# Altium schematic symbol library SSW-103-03-T-D.SchLib: 1 symbol
Pins are listed as number, name and electrical type; pins without a type are passive.

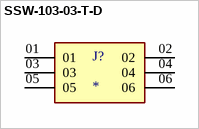
[diagram p0: symbol SSW-103-03-T-D]

## SSW-103-03-T-D
designator J?
SSW Series .100 Tiger Buyâ„¢ Socket Strip; MF: Samtec; MP: SSW-103-03-T-D; Price: None; Check_prices: https://www.snapeda.com/parts/SSW-103-03-T-D/Samtec/view-part/?ref=eda; Package: None; SnapEDA_Link: https://www.snapeda.com/parts/SSW-103-03-T-D/Samtec/view-part/?ref=snap; Purchase-URL: https://pricing.snapeda.com/search/part/SSW-103-03-T-D/?ref=eda; Availability: In Stock; Value: *
footprint SAMTEC_SSW-103-03-T-D
pins: 01, 02, 03, 04, 05, 06